# Altium schematic symbol library RemoteController.SchLib: 1 symbol
Pins are listed as number, name and electrical type; pins without a type are passive.

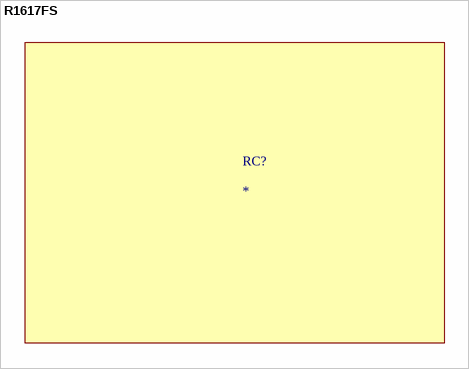
[diagram p0: symbol R1617FS]

## R1617FS
designator RC?
footprint R617FS (Futaba R617FS 7-Channel 2.4GHz FASST Receiver)